# Altium schematic symbol library KAF21KR71H225KU.SchLib: 1 symbol
Pins are listed as number, name and electrical type; pins without a type are passive.

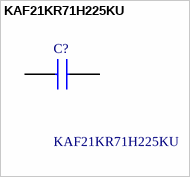
[diagram p0: symbol KAF21KR71H225KU]

## KAF21KR71H225KU
designator C?
Multilayer Ceramic Capacitors MLCC - SMD/SMT 50V 2.2uF X7R 0805 10% AEC-Q200 FLEXITERM; Manufacturer_Name: Kyocera AVX; Geometry.Height: 1.4mm; Mouser Part Number: 581-KAF21KR71H225KU; Mouser Price/Stock: https://www.mouser.co.uk/ProductDetail/KYOCERA-AVX/KAF21KR71H225KU?qs=Jm2GQyTW%2FbjwwNTLmtUMeQ%3D%3D; Manufacturer_Part_Number: KAF21KR71H225KU; Datasheet Link: https://datasheets.kyocera-avx.com/AutoMLCCKAF.pdf
footprint CAPC2012X140N
pins: 1, 2